# EAGLE library part PINHD-1X24 (library DIYmodules-pinhead)
PIN HEADER
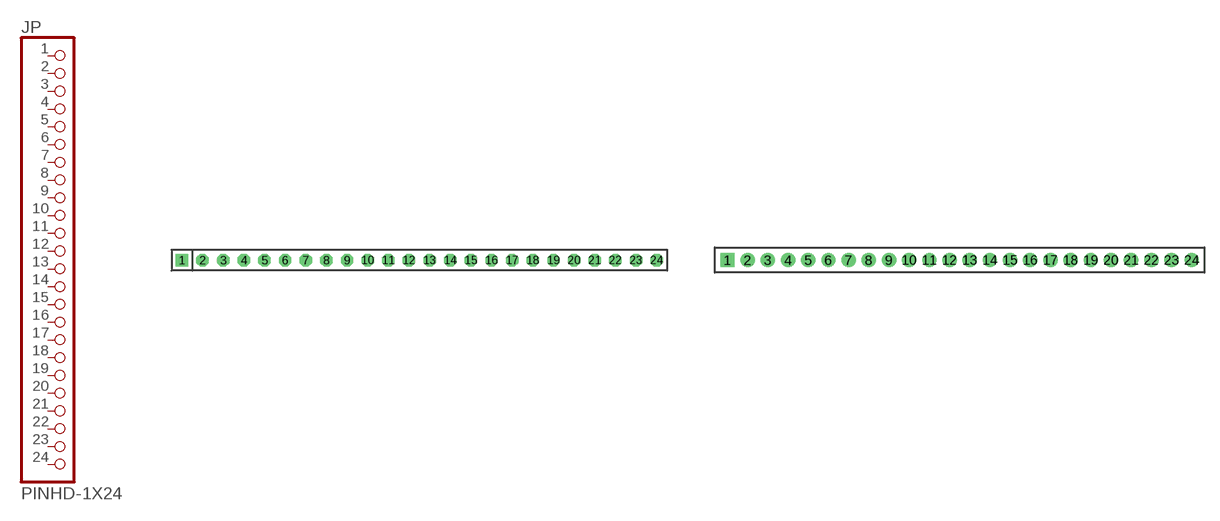
[diagram p20: symbol with the pads of 1X24; footprints 1X24, 1X24M]

Designator prefix JP

## PINHD-1X24  [1X24]
1  1  pas
2  2  pas
3  3  pas
4  4  pas
5  5  pas
6  6  pas
7  7  pas
8  8  pas
9  9  pas
10  10  pas
11  11  pas
12  12  pas
13  13  pas
14  14  pas
15  15  pas
16  16  pas
17  17  pas
18  18  pas
19  19  pas
20  20  pas
21  21  pas
22  22  pas
23  23  pas
24  24  pas

## PINHD-1X24M  [1X24M]
Pads as for 1X24

## Footprint 1X24 (pad centres in mm)
PIN HEADER - 0.1"
drill 1.016 square: 1 -29.21,0
drill 1.016 octagon: 2 -26.67,0; 3 -24.13,0; 4 -21.59,0; 5 -19.05,0; 6 -16.51,0; 7 -13.97,0; 8 -11.43,0; 9 -8.89,0; 10 -6.35,0; 11 -3.81,0; 12 -1.27,0; 13 1.27,0; 14 3.81,0; 15 6.35,0; 16 8.89,0; 17 11.43,0; 18 13.97,0; 19 16.51,0; 20 19.05,0; 21 21.59,0; 22 24.13,0; 23 26.67,0; 24 29.21,0

## Footprint 1X24M (pad centres in mm)
PIN HEADER - 2MM"
drill 0.914 square: 1 -23,0
drill 0.914: 2 -21,0; 3 -19,0; 4 -17,0; 5 -15,0; 6 -13,0; 7 -11,0; 8 -9,0; 9 -7,0; 10 -5,0; 11 -3,0; 12 -1,0; 13 1,0; 14 3,0; 15 5,0; 16 7,0; 17 9,0; 18 11,0; 19 13,0; 20 15,0; 21 17,0; 22 19,0; 23 21,0; 24 23,0